# EAGLE library part LED(RGB) (library BiomedicalImagingLibrary)
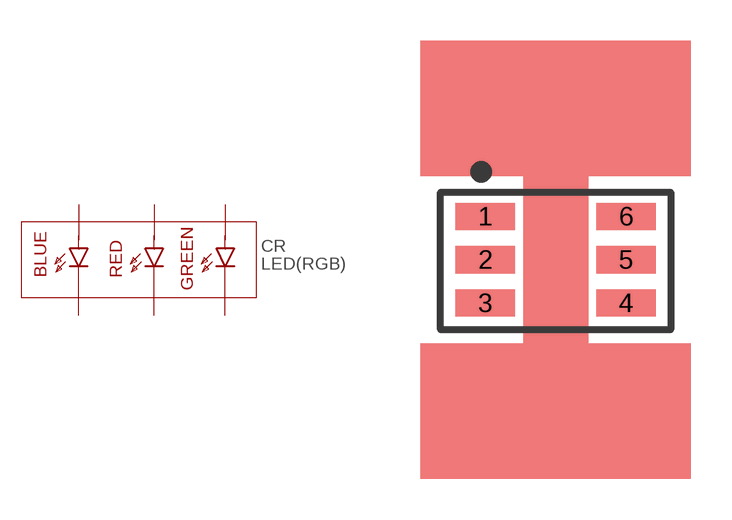
[diagram p5: symbol with the pads of SMD6; footprint SMD6]

Designator prefix CR

## LED(RGB)  [SMD6]
1  BC  pas
2  RC  pas
3  GC  pas
4  GA  pas
5  RA  pas
6  BA  pas

## Footprint SMD6 (pad centres in mm)
smd 2.2 x 1: 1 -2.6,1.6; 2 -2.6,0; 3 -2.6,-1.6; 4 2.6,-1.6; 5 2.6,0; 6 2.6,1.6